# EAGLE library part SERVODRIVER (library Library)
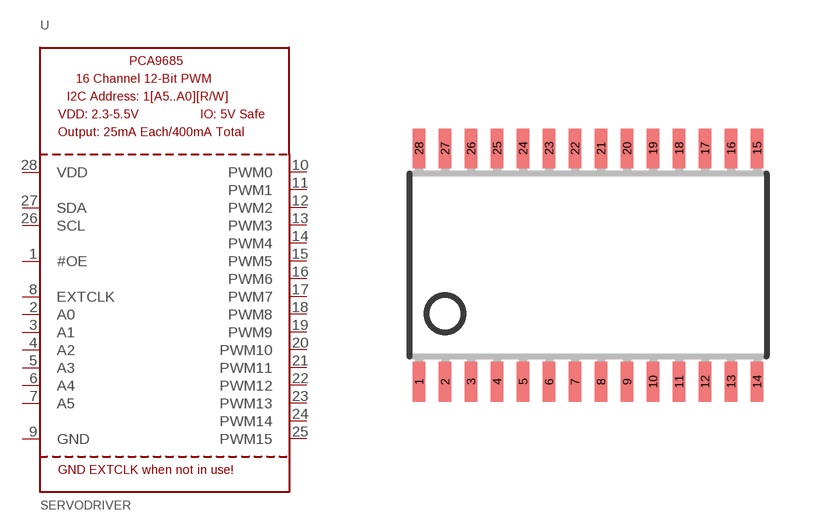
[diagram p3: symbol with the pads of TSSOP28; footprint TSSOP28]

Designator prefix -

## SERVODRIVERTSSOP28  [TSSOP28]
1  #OE  in
2  A0
3  A1
4  A2
5  A3
6  A4
7  A5
8  EXTCLK  in
9  GND  pwr
10  PWM0  out
11  PWM1  out
12  PWM2  out
13  PWM3  out
14  PWM4  out
15  PWM5  out
16  PWM6  out
17  PWM7  out
18  PWM8  out
19  PWM9  out
20  PWM10  out
21  PWM11  out
22  PWM12  out
23  PWM13  out
24  PWM14  out
25  PWM15  out
26  SCL
27  SDA
28  VDD  pwr

## Footprint TSSOP28 (pad centres in mm)
smd 0.305 x 0.991: 1 -4.225,-2.918; 2 -3.575,-2.918; 3 -2.925,-2.918; 4 -2.275,-2.918; 5 -1.625,-2.918; 6 -0.975,-2.918; 7 -0.325,-2.918; 8 0.325,-2.918; 9 0.975,-2.918; 10 1.625,-2.918; 11 2.275,-2.918; 12 2.925,-2.918; 13 3.575,-2.918; 14 4.225,-2.918; 15 4.225,2.918; 16 3.575,2.918; 17 2.925,2.918; 18 2.275,2.918; 19 1.625,2.918; 20 0.975,2.918; 21 0.325,2.918; 22 -0.325,2.918; 23 -0.975,2.918; 24 -1.625,2.918; 25 -2.275,2.918; 26 -2.925,2.918; 27 -3.575,2.918; 28 -4.225,2.918